# EAGLE library part TPS62150 (library components)
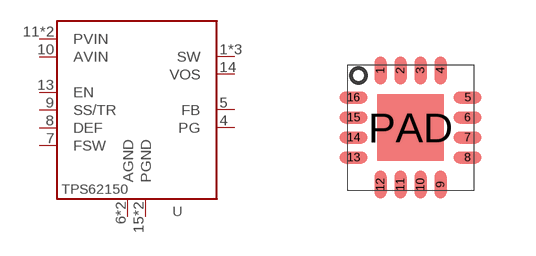
[diagram p27: symbol with the pads of QFN16; footprint QFN16]

Designator prefix -

## TPS62150  [QFN16]
1  SW  pwr
2  SW  pwr
3  SW  pwr
4  PG
5  FB
6  AGND  pwr
7  FSW
8  DEF
9  SS/TR  oc
10  AVIN
11  PVIN  pwr
12  PVIN  pwr
13  EN
14  VOS
15  PGND  pwr
16  PGND  pwr
PAD  AGND  pwr

## Footprint QFN16 (pad centres in mm)
QFN16 No Lead Package
smd 0.3 x 0.7: 1 -0.75,1.425; 2 -0.25,1.425; 3 0.25,1.425; 4 0.75,1.425; 9 0.75,-1.425; 10 0.25,-1.425; 11 -0.25,-1.425; 12 -0.75,-1.425
smd 0.7 x 0.3: 5 1.425,0.75; 6 1.425,0.25; 7 1.425,-0.25; 8 1.425,-0.75; 13 -1.425,-0.75; 14 -1.425,-0.25; 15 -1.425,0.25; 16 -1.425,0.75
smd 1.66 x 1.66: PAD 0,0